# EAGLE library part AT6558 (library pimoroni-ics)
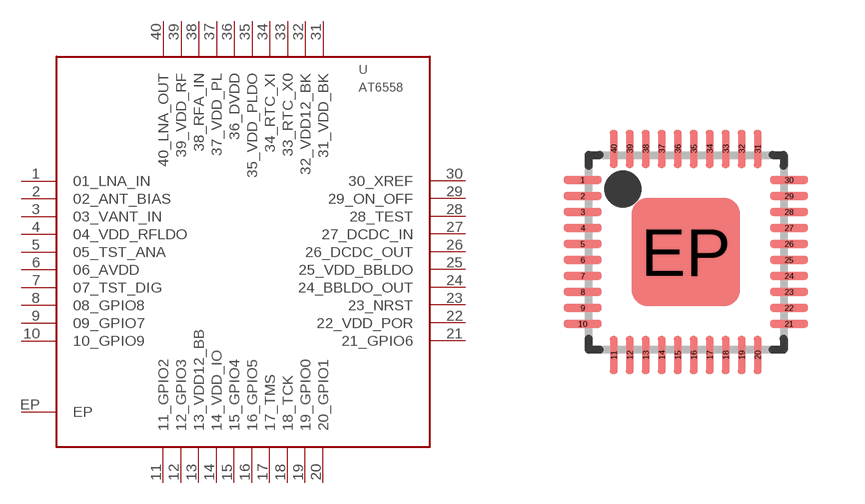
[diagram p59: symbol with the pads of QFN40-5X5; footprint QFN40-5X5]

Designator prefix U

## AT6558  [QFN40-5X5]
1  01_LNA_IN
2  02_ANT_BIAS
3  03_VANT_IN
4  04_VDD_RFLDO
5  05_TST_ANA
6  06_AVDD
7  07_TST_DIG
8  08_GPIO8
9  09_GPIO7
10  10_GPIO9
11  11_GPIO2
12  12_GPIO3
13  13_VDD12_BB
14  14_VDD_IO
15  15_GPIO4
16  16_GPIO5
17  17_TMS
18  18_TCK
19  19_GPIO0
20  20_GPIO1
21  21_GPIO6
22  22_VDD_POR
23  23_NRST
24  24_BBLDO_OUT
25  25_VDD_BBLDO
26  26_DCDC_OUT
27  27_DCDC_IN
28  28_TEST
29  29_ON_OFF
30  30_XREF
31  31_VDD_BK
32  32_VDD12_BK
33  33_RTC_X0
34  34_RTC_XI
35  35_VDD_PLDO
36  36_DVDD
37  37_VDD_PL
38  38_RFA_IN
39  39_VDD_RF
40  40_LNA_OUT
EP  EP

## Footprint QFN40-5X5 (pad centres in mm)
RSB (S-PWQFN-N40) Set restring parameter in design rules to 0, for top, inner, bottom at minimum and %. Source: RSB_TPS65023RSB_Land_Pattern.pdf
smd 0.95 x 0.2: 1 -2.58,1.8; 2 -2.58,1.4; 3 -2.58,1; 4 -2.58,0.6; 5 -2.58,0.2; 6 -2.58,-0.2; 7 -2.58,-0.6; 8 -2.58,-1; 9 -2.58,-1.4; 10 -2.58,-1.8; 21 2.58,-1.8; 22 2.58,-1.4; 23 2.58,-1; 24 2.58,-0.6; 25 2.58,-0.2; 26 2.58,0.2; 27 2.58,0.6; 28 2.58,1; 29 2.58,1.4; 30 2.58,1.8
smd 0.2 x 0.95: 11 -1.8,-2.58; 12 -1.4,-2.58; 13 -1,-2.58; 14 -0.6,-2.58; 15 -0.2,-2.58; 16 0.2,-2.58; 17 0.6,-2.58; 18 1,-2.58; 19 1.4,-2.58; 20 1.8,-2.58; 31 1.8,2.58; 32 1.4,2.58; 33 1,2.58; 34 0.6,2.58; 35 0.2,2.58; 36 -0.2,2.58; 37 -0.6,2.58; 38 -1,2.58; 39 -1.4,2.58; 40 -1.8,2.58
smd 2.7 x 2.7: EP 0,0